# Altium footprint library PcbLib1.PcbLib: 12 footprints
Each footprint in its own frame and in the unit in brackets; x right, y up, seen from the top. Pads: shape width x height; smd on the part's side, far side on the other; paste and mask are expansions set on the pad; w line width, h text height; cw(c..) or ccw(c..) is an arc to the next point about the centre after c.
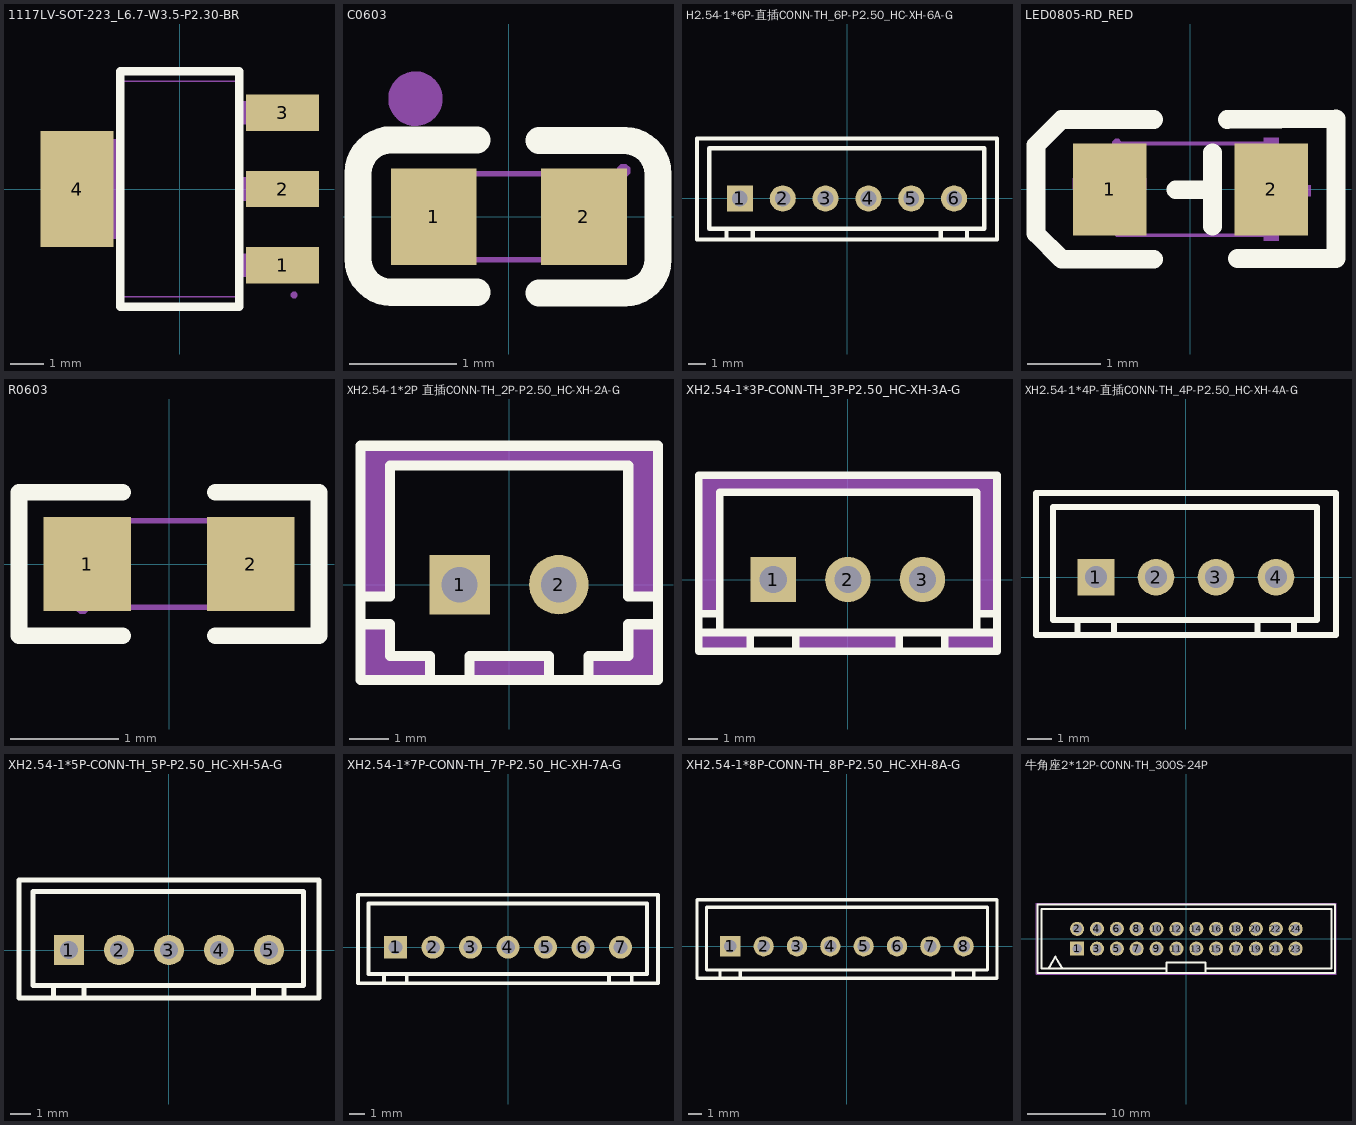
[diagram p0: the footprints below, top view; thin cyan lines are the x and y axes]

## 1117LV-SOT-223_L6.7-W3.5-P2.30-BR [mm]
pads (4):
  rect 2.2x1.1 smd mask+0.051: 1(3.099,-2.3) 2(3.099,0) 3(3.099,2.3)
  rect 2.2x3.5 smd mask+0.051: 4(-3.099,0)
Top Overlay:
  lines w0.254: -1.8,-3.55 1.8,-3.55 1.8,3.55 -1.8,3.55 -1.8,-3.55
Mechanical 6:
  circle w0.254: c3.683,-2.286 r0.127
Mechanical 15:
  region: 3.55,-3.2 3.55,-3.159 3.491,-3.1 3.409,-3.1 3.35,-3.159 3.35,-3.2 3.35,-3.241 3.409,-3.3 3.491,-3.3 3.55,-3.241
  region: 1.74,1.95 1.74,2.65 2.61,2.65 2.61,1.95
  region: 2.6,1.95 2.6,2.65 3.5,2.65 3.5,1.95
  region: 1.74,-0.35 1.74,0.35 2.61,0.35 2.61,-0.35
  region: 2.6,-0.35 2.6,0.35 3.5,0.35 3.5,-0.35
  region: 1.74,-2.65 1.74,-1.95 2.61,-1.95 2.61,-2.65
  region: 2.6,-2.65 2.6,-1.95 3.5,-1.95 3.5,-2.65
  region: -2.61,-1.5 -2.61,1.5 -1.74,1.5 -1.74,-1.5
  region: -3.5,-1.5 -3.5,1.5 -2.6,1.5 -2.6,-1.5
  lines w0.051: -1.75,-3.25 -1.75,3.25 1.75,3.25 1.75,-3.25 -1.75,-3.25

## C0603 [mm]
pads (2):
  rect 0.8x0.9 smd paste+0 mask+0.051: 1(-0.7,0) 2(0.7,0)
Top Overlay:
  lines w0.254: -0.296,-0.704 -1.096,-0.704 cw(c-1.096,-0.394) -1.406,-0.394 -1.405,0.406 cw(c-1.096,0.406) -1.096,0.715 -0.296,0.715 ; 0.28,-0.71 1.08,-0.71 ccw(c1.08,-0.4) 1.39,-0.4 1.39,0.4 ccw(c1.08,0.4) 1.08,0.71 0.28,0.71
Mechanical 6:
  circle w0.254: c-0.87,1.1 r0.127
Mechanical 15:
  region: 0.8,-0.4 0.8,0.4 0.5,0.4 0.5,-0.4
  region: -0.8,-0.4 -0.8,0.4 -0.5,0.4 -0.5,-0.4
  region: 1.13,0.43 1.13,0.455 1.095,0.49 1.045,0.49 1.01,0.455 1.01,0.43 1.01,0.405 1.045,0.37 1.095,0.37 1.13,0.405
  lines w0.051: -0.8,-0.4 0.8,-0.4 0.8,0.4 -0.8,0.4 -0.8,-0.4

## H2.54-1*6P-直插CONN-TH_6P-P2.50_HC-XH-6A-G [mil]
pads (6):
  rect 60x60 hole 36 paste+0 mask+1.97: 1(-246.06,0)
  round 60 hole 36 paste+0 mask+1.97: 2(-147.63,0) 3(-49.22,0) 4(49.22,0) 5(147.63,0) 6(246.07,0)
Top Overlay:
  lines w10: -276.58,-94.49 -276.58,-70 ; -216.58,-94.49 -216.58,-70 ; 215.55,-94.49 215.55,-70 ; 275.55,-94.49 275.55,-70 ; -344.49,-94.49 -344.49,137.79 344.49,137.79 344.49,-94.49 -344.49,-94.49 ; -316.57,-70 315,-70 315,115 -316.57,115 -316.57,-70

## LED0805-RD_RED [mm]
pads (2):
  rect 1x1.25 smd paste+0 mask+0.051: 1(-1.1,0) 2(1.1,0)
Top Overlay:
  lines w0.254: -0.5,-0.95 -1.75,-0.95 ; -0.5,0.95 -1.75,0.95 ; -0.2,-0.005 0.3,-0.005 ; 0.3,-0.5 0.3,0.5 ; 0.5,0.95 1.98,0.96 1.98,-0.94 0.64,-0.94 ; -1.75,-0.95 -1.75,-0.95 ; -1.75,-0.95 -2.1,-0.6 -2.1,0.6 -1.75,0.95 ; -1.75,0.95 -1.75,0.95
Mechanical 6:
  region: 1,0.7 1.2,0.7 1.2,-0.7 1,-0.7
  region: 0.635,-0.094 1.635,-0.094 1.635,0.056 0.635,0.056
  region: -1.6,0 -0.6,0 -0.6,0.15 -1.6,0.15
Mechanical 15:
  region: -0.94,0.625 -0.94,0.65 -0.975,0.685 -1.025,0.685 -1.06,0.65 -1.06,0.625 -1.06,0.6 -1.025,0.565 -0.975,0.565 -0.94,0.6
  region: 1,-0.625 0.65,-0.625 0.65,0.625 1,0.625
  region: -0.65,-0.625 -1,-0.625 -1,0.625 -0.65,0.625
  lines w0.051: -1,-0.625 -1,0.625 1,0.625 1,-0.625 -1,-0.625

## R0603 [mil]
pads (2):
  rect 31.75x34.02 smd paste-3937.01 mask+2: 1(-29.66,0) 2(29.66,0)
Top Overlay:
  lines w6: -16.78,-26.01 -54.53,-26.01 -54.53,26.01 -16.78,26.01 ; 16.78,-26.01 54.53,-26.01 54.53,26.01 16.78,26.01
Top Paste:
  region: 47.05,17.72 15.55,17.72 13.58,15.75 13.58,6.77 28.15,6.77 28.15,-6.22 13.58,-6.22 13.58,-15.75 15.55,-17.72 47.05,-17.72 49.02,-15.75 49.02,15.75
  region: -13.98,15.75 -13.98,6.77 -28.94,6.77 -28.94,-6.22 -13.98,-6.22 -13.98,-15.75 -15.94,-17.72 -47.05,-17.72 -49.02,-15.75 -49.02,15.75 -47.05,17.72 -15.94,17.72
Mechanical 15:
  region: -29.14,-15.75 -29.14,-14.77 -30.52,-13.39 -32.48,-13.39 -33.86,-14.77 -33.86,-15.75 -33.86,-16.73 -32.48,-18.11 -30.52,-18.11 -29.14,-16.73
  region: -31.5,-15.75 -31.5,15.75 -19.68,15.75 -19.68,-15.75
  region: 31.5,-15.75 31.5,15.75 19.68,15.75 19.68,-15.75
  lines w2: -31.5,-15.75 -31.5,15.75 31.5,15.75 31.5,-15.75 -31.5,-15.75

## XH2.54-1*2P 直插CONN-TH_2P-P2.50_HC-XH-2A-G [mm]
pads (2):
  rect 1.524x1.5 hole 0.9 paste+0 mask+0.05: 1(-1.25,0)
  round 1.5 hole 0.9 paste+0 mask+0.05: 2(1.25,0)
Top Overlay:
  lines w0.254: -3.75,-0.997 -3,-0.997 -3,-1.8 -2,-1.8 -2,-2.4 ; -3.75,-0.3 -3,-0.3 -3,3 3,3 3,-0.3 3.75,-0.3 ; -1,-2.4 -1,-1.8 1,-1.8 1,-2.4 ; 2,-2.4 2,-1.8 3,-1.8 3,-0.997 3.75,-0.997 ; -3.75,-2.4 3.75,-2.4 3.75,3.5 -3.75,3.5 -3.75,-2.4
Mechanical 6:
  region: 2,-2.4 3.75,-2.4 3.75,-1 3,-1 3,-1.8 2,-1.8
  region: -2,-2.4 -3.75,-2.4 -3.75,-1 -3,-1 -3,-1.8 -2,-1.8
  region: -1,-2.4 -1,-1.8 1,-1.8 1,-2.4
  region: -3.75,-0.3 -3,-0.3 -3,3 3,3 3,-0.3 3.75,-0.3 3.75,3.5 -3.75,3.5
Mechanical 15:
  region: -3.69,-2.4 -3.69,-2.375 -3.725,-2.34 -3.775,-2.34 -3.81,-2.375 -3.81,-2.4 -3.81,-2.425 -3.775,-2.46 -3.725,-2.46 -3.69,-2.425
  region: 0.93,0.32 1.57,0.32 1.57,-0.32 0.93,-0.32
  region: -1.57,0.32 -0.93,0.32 -0.93,-0.32 -1.57,-0.32
  lines w0.051: -3.75,-2.4 -3.75,3.5 3.75,3.5 3.75,-2.4 -3.75,-2.4

## XH2.54-1*3P-CONN-TH_3P-P2.50_HC-XH-3A-G [mil]
pads (3):
  rect 60x60 hole 36 paste+0 mask+1.97: 1(-98.42,0)
  round 60 hole 36 paste+0 mask+1.97: 2(0.01,0) 3(98.42,0)
Top Overlay:
  lines w10: -196.85,-70 -170,-70 ; -196.85,-45 -170,-45 ; -128.94,-94.49 -128.94,-70 ; -68.94,-94.49 -68.94,-70 ; 67.91,-94.49 67.91,-70 ; 127.91,-94.49 127.91,-70 ; 170,-45 196.85,-45 ; 196.85,-70 170,-70 ; 170,-70 -168.94,-70 -168.94,115 170,115 170,-70 ; -196.85,-94.49 196.85,-94.49 196.85,137.79 -196.85,137.79 -196.85,-94.49
Mechanical 6:
  region: -128.94,-70 -128.94,-93.42 -130,-94.49 -196.85,-94.49 -196.85,-70
  region: 196.85,-45 170,-45 170,115 -170,115 -170,-45 -196.85,-45 -196.85,137.79 196.85,137.79
  region: 67.91,-70 70,-95 -68.94,-94.49 -68.94,-70
  region: 196.85,-70 127.91,-70 130,-95 196.85,-94.49
Mechanical 15:
  region: -194.49,-94.49 -194.49,-93.51 -195.87,-92.12 -197.83,-92.12 -199.21,-93.51 -199.21,-94.49 -199.21,-95.47 -197.83,-96.85 -195.87,-96.85 -194.49,-95.47 -194.49,-94.49
  region: 88.58,9.84 108.27,9.84 108.27,-9.84 88.58,-9.84
  region: -9.84,9.84 9.85,9.84 9.85,-9.84 -9.84,-9.84
  region: -108.27,9.84 -88.58,9.84 -88.58,-9.84 -108.27,-9.84
  lines w2: -196.85,-94.49 -196.85,137.8 196.85,137.8 196.85,-94.49 -196.85,-94.49

## XH2.54-1*4P-直插CONN-TH_4P-P2.50_HC-XH-4A-G [mil]
pads (4):
  rect 60x60 hole 36 paste+0 mask+1.97: 1(-147.64,0)
  round 60 hole 36 paste+0 mask+1.97: 2(-49.2,0) 3(49.21,0) 4(147.65,0)
Top Overlay:
  lines w10: -178.15,-94.49 -178.15,-70 ; -118.15,-94.49 -118.15,-70 ; 117.13,-94.49 117.13,-70 ; 177.13,-94.49 177.13,-70 ; -246.06,-94.49 246.06,-94.49 246.07,137.79 -246.06,137.79 -246.06,-94.49 ; -218.15,-70 215,-70 215,115 -218.15,115 -218.15,-70

## XH2.54-1*5P-CONN-TH_5P-P2.50_HC-XH-5A-G [mil]
pads (5):
  rect 60x60 hole 36 paste+0 mask+1.97: 1(-196.85,0)
  round 60 hole 36 paste+0 mask+1.97: 2(-98.42,0) 3(0,0) 4(98.44,0) 5(196.85,0)
Top Overlay:
  lines w10: -227.36,-94.49 -227.36,-70 ; -167.36,-94.49 -167.36,-70 ; 166.33,-94.49 166.33,-70 ; 226.33,-94.49 226.33,-70 ; 295.27,-94.49 295.27,137.79 ; 295.27,-94.49 -295.27,-94.49 -295.27,137.79 295.27,137.79 ; -267.36,-70 265,-70 265,115 -267.36,115 -267.36,-70

## XH2.54-1*7P-CONN-TH_7P-P2.50_HC-XH-7A-G [mil]
pads (7):
  rect 60x60 hole 36 paste+0 mask+1.97: 1(-295.27,0)
  round 60 hole 36 paste+0 mask+1.97: 2(-196.85,0) 3(-98.42,0) 4(-0.01,0) 5(98.43,0) 6(196.84,0) 7(295.28,0)
Top Overlay:
  lines w10: -325.79,-94.49 -325.79,-70 ; -265.79,-94.49 -265.79,-70 ; 264.76,-94.49 264.76,-70 ; 324.76,-94.49 324.76,-70 ; -393.7,-94.49 393.69,-94.49 393.7,137.79 -393.7,137.79 -393.7,-94.49 ; -365.8,-70 -365.8,115 365,115 365,-70 -365.8,-70

## XH2.54-1*8P-CONN-TH_8P-P2.50_HC-XH-8A-G [mil]
pads (8):
  rect 60x60 hole 36 paste+0 mask+1.97: 1(-344.49,0)
  round 60 hole 36 paste+0 mask+1.97: 2(-246.05,0) 3(-147.64,0) 4(-49.2,0) 5(49.21,0) 6(147.65,0) 7(246.06,0) 8(344.5,0)
Top Overlay:
  lines w10: -375,-94.49 -375,-70 ; -315,-94.49 -315,-70 ; 313.98,-94.49 313.98,-70 ; 373.98,-94.49 373.98,-70 ; -442.91,-94.49 442.91,-94.49 442.91,137.79 -442.91,137.79 -442.91,-94.49 ; -415,-70 -415,115 415,115 415,-70 -415,-70

## 牛角座2*12P-CONN-TH_300S-24P [mm]
pads (24):
  rect 1.8x1.8 hole 1.2 paste+0 mask+0.051: 1(-13.97,-1.27)
  round 1.8 hole 1.2 paste+0 mask+0.051: 2(-13.97,1.27) 3(-11.43,-1.27) 4(-11.43,1.27) 5(-8.89,-1.27) 6(-8.89,1.27) 7(-6.35,-1.27) 8(-6.35,1.27) 9(-3.81,-1.27) 10(-3.81,1.27) 11(-1.27,-1.27) 12(-1.27,1.27) 13(1.27,-1.27) 14(1.27,1.27) 15(3.81,-1.27) 16(3.81,1.27) 17(6.35,-1.27) 18(6.35,1.27) 19(8.89,-1.27) 20(8.89,1.27) 21(11.43,-1.27) 22(11.43,1.27) 23(13.97,-1.27) 24(13.97,1.27)
Top Overlay:
  lines w0.254: -19.04,-4.4 -19.04,4.4 ; -19,-4.4 19,-4.4 19,4.4 -19,4.4 ; -17.61,-3.821 -16.764,-2.286 -15.832,-3.821 ; -2.54,-4.318 -2.54,-4.285 -2.54,-3.015 2.459,-3.015 2.459,-4.285 ; -2.54,-3.81 -18.542,-3.81 -18.542,3.81 18.542,3.81 18.542,-3.81 2.54,-3.81
Mechanical 15:
  drawing of 29 lines, arcs and shapes, not listed